# Altium footprint library CAP8X10.2.PcbLib: 1 footprints
Each footprint in its own frame and in the unit in brackets; x right, y up, seen from the top. Pads: shape width x height; smd on the part's side, far side on the other; paste and mask are expansions set on the pad; w line width, h text height; cw(c..) or ccw(c..) is an arc to the next point about the centre after c.
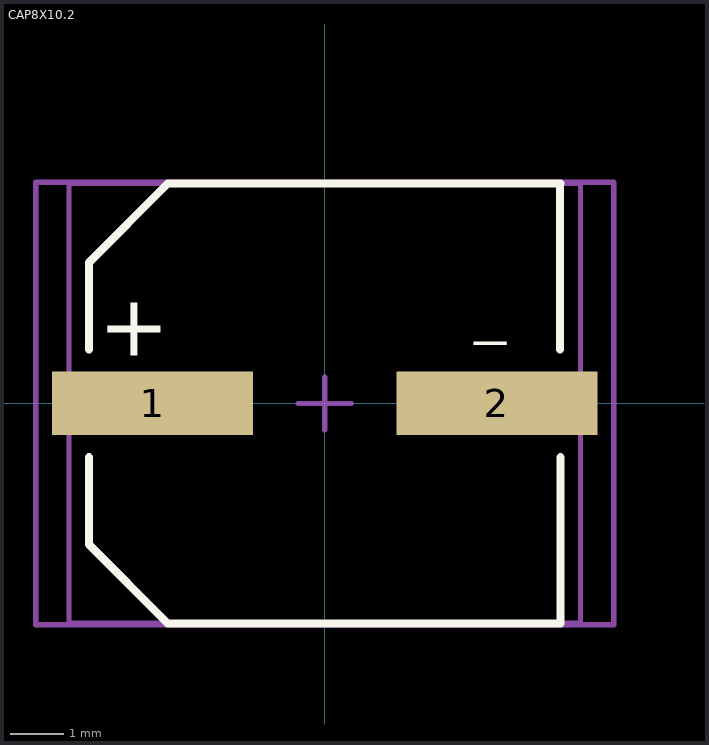
[diagram p0: the footprint, top view; thin cyan lines are the x and y axes]

## CAP8X10.2 [mm] "pitch 6.5mm Body 8.3X8.3mm High 10mm"
height 10
pads (2):
  rect 3.8x1.2 smd: 1(-3.25,0) 2(3.25,0)
Top Overlay:
  lines w0.152: -4.45,-1.016 -4.45,-2.662 -2.962,-4.15 4.45,-4.15 4.45,-1.016 ; -4.45,1.016 -4.45,2.662 -2.962,4.15 4.45,4.15 ; 4.44,1.016 4.44,4.15
  text "+" at -2.921,2.286 h2
  text "-" at 3.556,2.286 h3
Mechanical 13:
  lines w0.1: -4.826,-4.15 -4.826,4.15 4.826,4.15 4.826,-4.15 -4.826,-4.15
Mechanical 15:
  lines w0.1: -0.5,0 0.5,0 ; 0,-0.5 0,0.5 ; -5.452,-4.176 -5.452,4.176 5.452,4.176 5.452,-4.176 -5.452,-4.176
3D body: height 8.89, standoff -0.01, extent -4.85,-4.15 4.85,4.15